# Altium schematic symbol library TVR.SchLib: 18 symbols
Pins are listed as number, name and electrical type; pins without a type are passive.

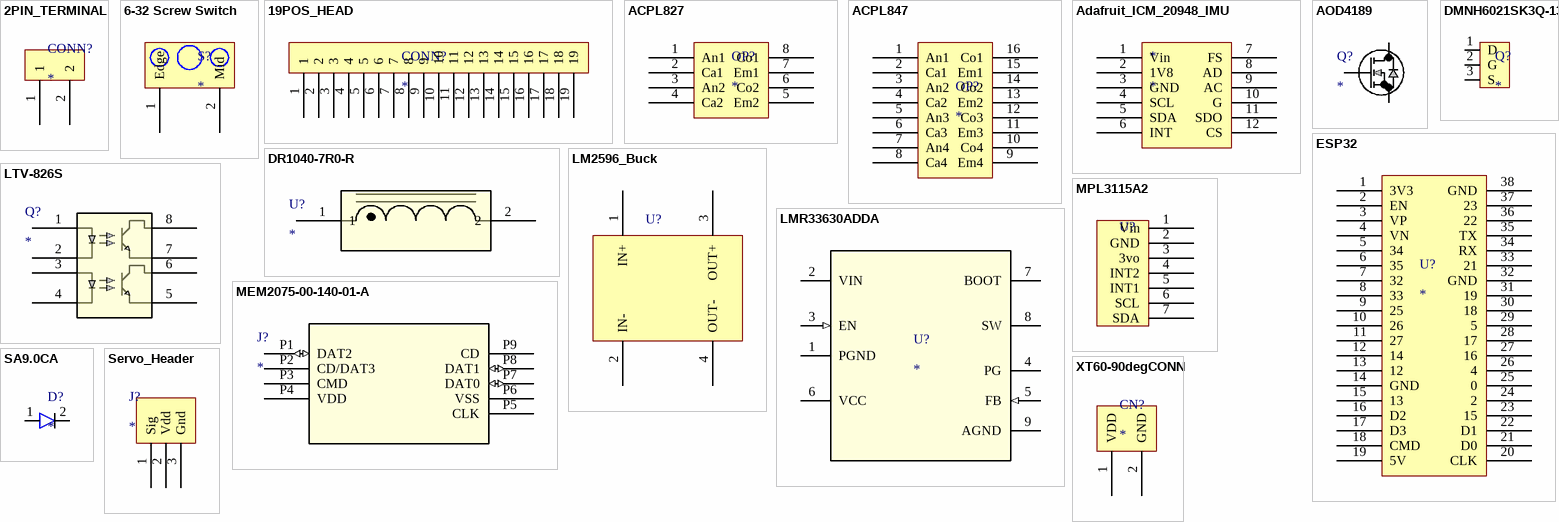
[diagram p0: symbols 2PIN_TERMINAL to XT60-90degCONN]

## 2PIN_TERMINAL
designator CONN?
footprint 2PIN_TERMINAL
pins: 1, 2

## 6-32 Screw Switch
designator S?
footprint 6-32 Screw Switch
pins: 1 Edge, 2 Mid

## 19POS_HEAD
designator CONN?
footprint 19POS_HEAD
pins: 1, 2, 3, 4, 5, 6, 7, 8, 9, 10, 11, 12, 13, 14, 15, 16, 17, 18, 19

## ACPL827
designator OP?
footprint 4PIN_DIP
pins: 1 An1, 2 Ca1, 3 An2, 4 Ca2, 5 Em2, 6 Co2, 7 Em1, 8 Co1

## ACPL847
designator OP?
footprint 8PIN_DIP (3/8 spacing)
pins: 1 An1, 2 Ca1, 3 An2, 4 Ca2, 5 An3, 6 Ca3, 7 An4, 8 Ca4, 9 Em4, 10 Co4, 11 Em3, 12 Co3, 13 Em2, 14 Co2, 15 Em1, 16 Co1

## Adafruit_ICM_20948_IMU
designator *
footprint Adafruit_ICM_20948_IMU
pins: 1 Vin, 2 1V8, 3 GND, 4 SCL, 5 SDA, 6 INT, 7 FS, 8 AD, 9 AC, 10 G, 11 SDO, 12 CS

## AOD4189
designator Q?
P Channel MOSFET 40V 40A; Mfr_Name: Alpha and Omega Semiconductor
footprint TO-252_D-PAK_AOS
pins: 1 G, 2 S, 3 D

## DMNH6021SK3Q-13
designator Q?
N-Channel MOSFET, 60V 50A SMD with drain pad
footprint TO252(DPAK)
pins: 1 D, 2 G, 3 S

## DR1040-7R0-R
designator U?
No Description Available; Mfr_Name: Eaton / Coiltronics; RefDes: RefDes; Type: Type
footprint DR1040-7R0-R_EAT
pins: 1, 2

## ESP32
designator U?
pins: 1 3V3, 2 EN, 3 VP, 4 VN, 5 34, 6 35, 7 32, 8 33, 9 25, 10 26, 11 27, 12 14, 13 12, 14 GND, 15 13, 16 D2, 17 D3, 18 CMD, 19 5V, 20 CLK, 21 D0, 22 D1, 23 15, 24 2, 25 0, 26 4, 27 16, 28 17, 29 5, 30 18, 31 19, 32 GND, 33 21, 34 RX, 35 TX, 36 22, 37 23, 38 GND

## LM2596_Buck
designator U?
buck converter breakout
footprint LM2596 Buck
pins: 1 IN+, 2 IN-, 3 OUT+, 4 OUT-

## LMR33630ADDA
designator U?
No Description Available; Mfr_Name: Texas Instruments; TYPE: TYPE; RefDes: RefDes
footprint DDA0008J
pins: 1 PGND (power), 2 VIN (power), 3 EN (in), 4 PG (oc), 5 FB (in), 6 VCC (power), 7 BOOT (power), 8 SW (power), 9 AGND

## LTV-826S
designator Q?
No Description Available; Mfr_Name: LITE-ON; RefDes: RefDes; Type: Type
footprint LTV-826S_LTO
pins: 1, 2, 3, 4, 5, 6, 7, 8

## MEM2075-00-140-01-A
designator J?
No Description Available; Mfr_Name: Global Connector Technology; RefDes: RefDes; Type: Type
footprint MEM2075-00-140-01-A_GCT
pins: P1 DAT2 (io), P2 CD/DAT3, P3 CMD, P4 VDD (power), P5 CLK, P6 VSS (power), P7 DAT0 (io), P8 DAT1 (io), P9 CD

## MPL3115A2
designator U?, comment Altimeter  (value not drawn)
footprint MPL3115A2_DIP (adafruit package)
pins: 1 Vin, 2 GND, 3 3vo, 4 INT2, 5 INT1, 6 SCL, 7 SDA

## SA9.0CA
designator D?
footprint SA9.0CA (tvs diode)
pins: 1, 2 147

## Servo_Header
designator J?
footprint ServoHeader
pins: 1 Sig, 2 Vdd, 3 Gnd

## XT60-90degCONN
designator CN?
footprint XT60-90CONN
pins: 1 VDD, 2 GND